# EAGLE library part MAX17048 (library Custom_Library)
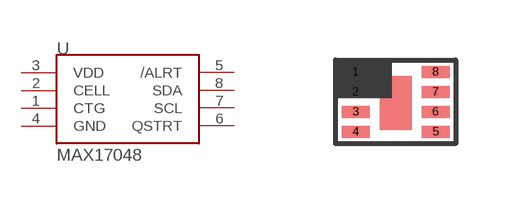
[diagram p1: symbol with the pads of TDFN-2X2; footprint TDFN-2X2]

Designator prefix U

## MAX17048  [TDFN-2X2]
1  CTG
2  CELL
3  VDD
4  GND
5  /ALRT
6  QSTRT
7  SCL
8  SDA

## Footprint TDFN-2X2 (pad centres in mm)
smd 0.7 x 0.3: 1 -1,0.8; 2 -1,0.3; 3 -1,-0.2; 4 -1,-0.7; 5 1,-0.7; 6 1,-0.2; 7 1,0.3; 8 1,0.8